# EAGLE library part OP297 (library HelaTronix - IC Special Functions)
Precision Operational Amplifier OP Amp
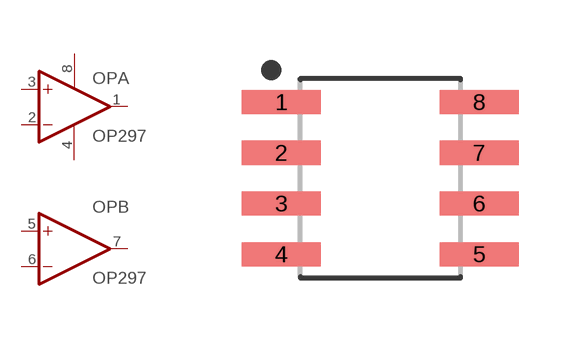
[diagram p8: symbol with the pads of SO-8-IC127P600X175-8N; footprint SO-8-IC127P600X175-8N]

Designator prefix OP; gates A=OPAMP+- B=OPAMP_NO_PO

## OP297 (LCSC#: C581257; LCSC_LINK: https://lcsc.com/product-detail/Pre-ordered-Products_Analog-Devices_OP297GSZ-REEL7_Analog-Devices-ADI-LINEAR-OP297GSZ-REEL7_C581257.html; MANUFACTURER: Analog Devices; MFR#: OP297GSZ-REEL7)  [SO-8-IC127P600X175-8N]
1  A:OUT  out
2  A:-IN  in
3  A:+IN  in
4  A:V-  pwr
5  B:+IN  in
6  B:-IN  in
7  B:OUT  out
8  A:V+  pwr

## Footprint SO-8-IC127P600X175-8N (pad centres in mm)
8-SOIC, 1.27 mm pitch, 6.00 mm span, 4.90 X 3.90 X 1.75 mm body 8-pin SOIC package with 1.27 mm pitch, 6.00 mm span with body size 4.90 X 3.90 X 1.75 mm
smd 1.968 x 0.602: 1 -2.473,1.905; 2 -2.473,0.635; 3 -2.473,-0.635; 4 -2.473,-1.905; 5 2.473,-1.905; 6 2.473,-0.635; 7 2.473,0.635; 8 2.473,1.905